# Altium schematic symbol library MAMK2520T1R0M.SchLib: 1 symbol
Pins are listed as number, name and electrical type; pins without a type are passive.

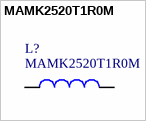
[diagram p0: symbol MAMK2520T1R0M]

## MAMK2520T1R0M
designator L?
Inductor Power Chip Wirewound 1uH 20% 2MHz Metal 2.7A 59mOhm DCR 1008 T/R; MF: Taiyo Yuden; Package: 2520 Taiyo Yuden; Digi-Key_Part_Number: 587-3225-1-ND; SnapEDA_Link: https://www.snapeda.com/parts/MAMK2520T1R0M/Taiyo%20Yuden/view-part/?ref=snap; Digi-Key_Purchase_URL: https://www.digikey.com/product-detail/en/taiyo-yuden/MAMK2520T1R0M/587-3225-1-ND/3479480?utm_source=snapeda&utm_medium=aggregator&utm_campaign=symbol; MP: MAMK2520T1R0M; Value: *
footprint *INDC2520X120N
pins: 1, 2